# Altium footprint library Hello.PcbLib: 234 footprints (part 1 of 15)
Each footprint in its own frame and in the unit in brackets; x right, y up, seen from the top. Pads: shape width x height; smd on the part's side, far side on the other; paste and mask are expansions set on the pad; w line width, h text height; cw(c..) or ccw(c..) is an arc to the next point about the centre after c.
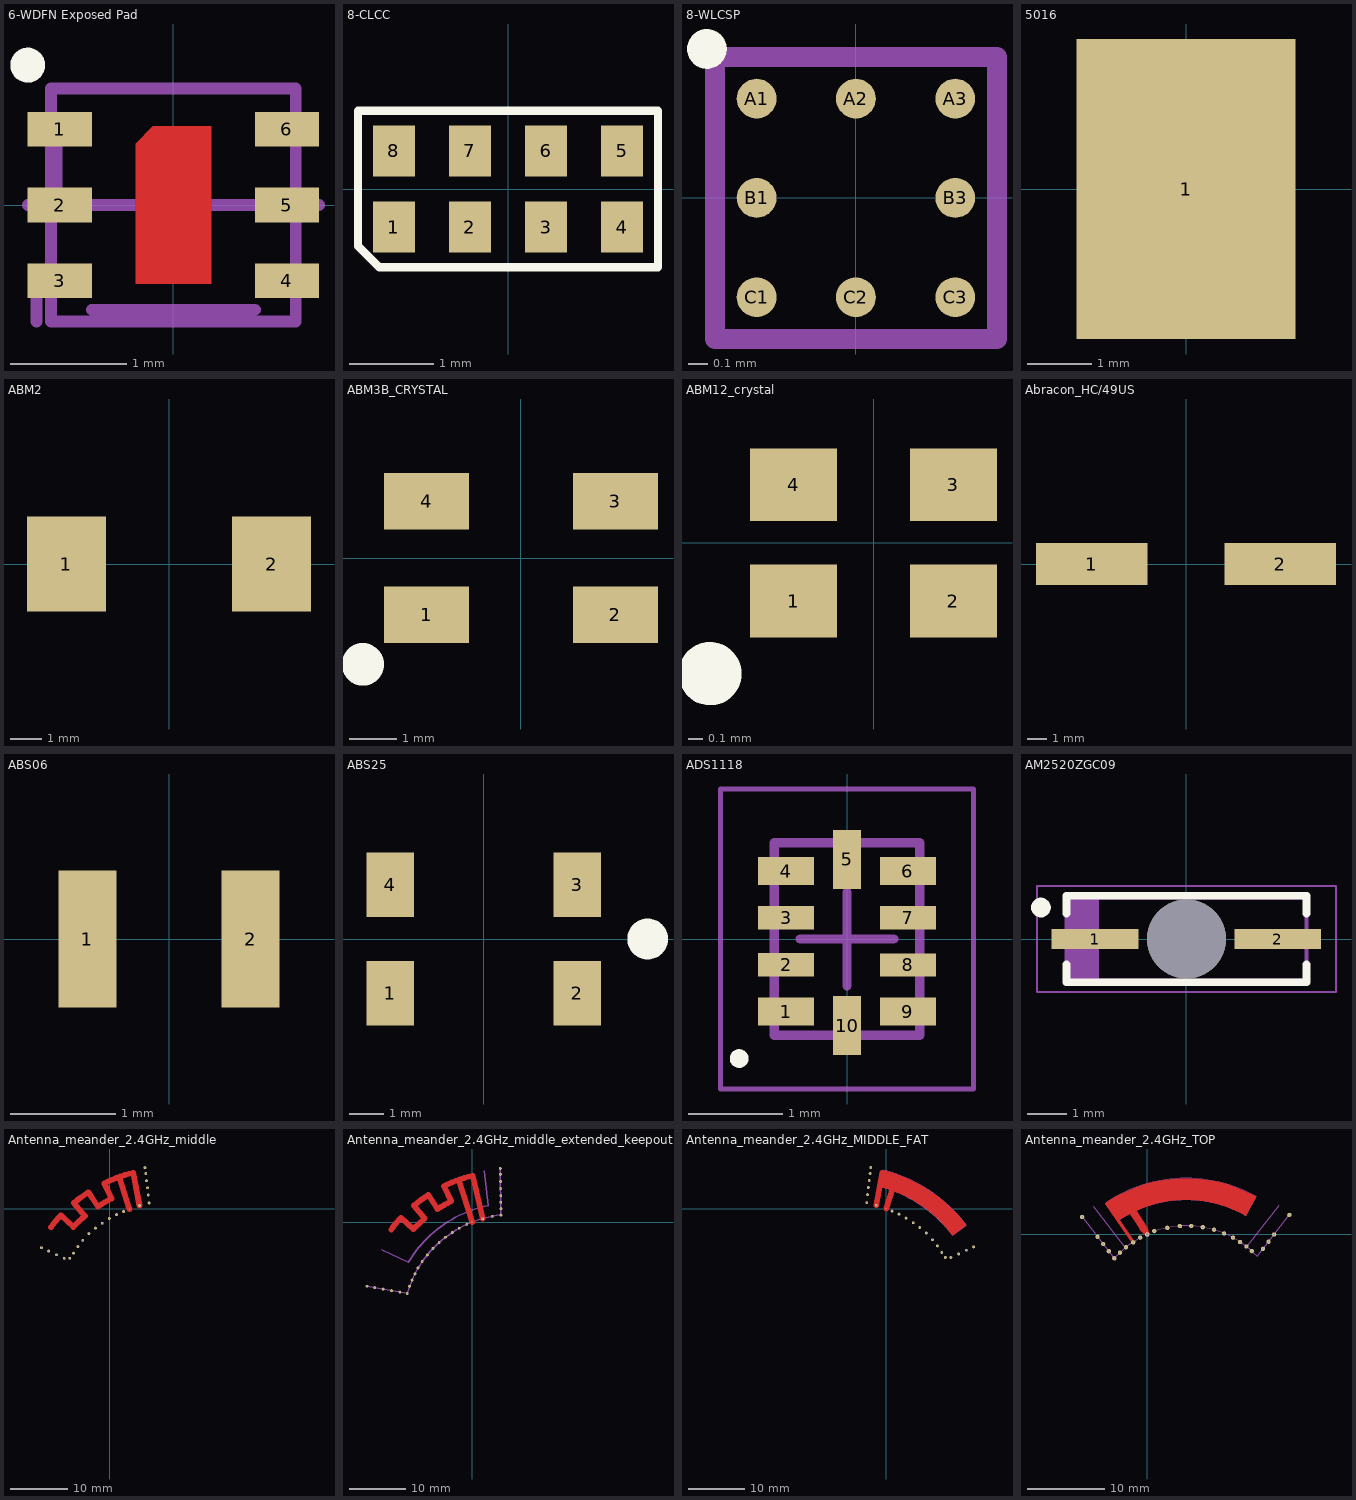
[diagram p0: the footprints below, top view; thin cyan lines are the x and y axes]

## 6-WDFN Exposed Pad [mm] "6-Pin DFN 2.10 x 2.0 mm"
height 0.75
pads (6):
  rect 0.55x0.3 smd: 1(-0.975,0.65) 2(-0.975,0) 3(-0.975,-0.65) 4(0.975,-0.65) 5(0.975,0) 6(0.975,0.65)
Top Layer:
  region: -0.325,-0.675 -0.325,0.525 -0.175,0.675 0.325,0.675 0.325,-0.675
Top Overlay:
  circle w0.15: c-1.25,1.2 r0.075
Mechanical 13:
  lines w0.1: -1.25,0 1.25,0 ; -0.7,-0.9 0.7,-0.9 ; -1.05,-1 -1.05,1 1.05,1 1.05,-1 -1.05,-1
Mechanical 15:
  lines w0.1: -1.175,-1 -1.175,-0.675 ; -1.05,-0.65 -1.05,0 ; -1,0 -1,0.65
3D body: height 0.6, standoff 0.05, extent -1.1,-1.05 1.1,1.05

## 8-CLCC [mm] "8 lead CLCC package, 2.3 x 1.5mm"
height 0.8
pads (8):
  rect 0.5x0.6 smd: 1(-1.35,-0.45) 2(-0.45,-0.45) 3(0.45,-0.45) 4(1.35,-0.45) 5(1.35,0.45) 6(0.45,0.45) 7(-0.45,0.45) 8(-1.35,0.45)
Top Overlay:
  lines w0.1: -1.775,-0.675 -1.525,-0.925 1.775,-0.925 1.775,0.925 -1.775,0.925 -1.775,-0.6 -1.775,-0.675
3D body: height 0.8, standoff 0.1, extent -1.5,-0.55 1.7,0.95

## 8-WLCSP [mm] "8-ball WLCSP 1.42x1.42x0.65mm"
height 0.65
pads (8):
  round 0.2 smd: A1(-0.5,0.5) A2(0,0.5) A3(0.5,0.5) B1(-0.5,0) B3(0.5,0) C1(-0.5,-0.5) C2(0,-0.5) C3(0.5,-0.5)
Top Overlay:
  circle w0.1: c-0.75,0.75 r0.05
Mechanical 13:
  lines w0.1: -0.71,-0.71 0.71,-0.71 0.71,0.71 -0.71,0.71 -0.71,-0.71
3D body: height 0.65, standoff 0.21, extent -0.71,-0.71 0.71,0.71

## 5016 [mm] "Single-pad test point"
height 0.99
pads (1):
  rect 3.43x4.7 smd: 1(0,0)

## ABM2 [mm] "Abracon ABM2 2-lead XO 4.5x8x1.4mm"
height 1.4
pads (2):
  rect 2.5x3 smd: 1(-3.25,0) 2(3.25,0)
3D body: height 1.4, standoff 0.02, extent -4,-2.25 4,2.25

## ABM3B_CRYSTAL [mm] "Abracon ABM3B series crystals"
height 1.1
pads (4):
  rect 1.8x1.2 smd: 1(-2,-1.2) 2(2,-1.2) 3(2,1.2) 4(-2,1.2)
Top Overlay:
  circle w0.7: c-3.35,-2.25 r0.1
3D body: height 1.1, standoff 0, extent -2.5,-1.6 2.5,1.6

## ABM12_crystal [mm] "Abracon ABM12 series crystal"
height 0.45
pads (4):
  rect 0.6x0.5 smd: 1(-0.55,-0.4) 2(0.55,-0.4) 3(0.55,0.4) 4(-0.55,0.4)
Top Overlay:
  circle w0.254: c-1.125,-0.9 r0.09
3D body: height 0.45, standoff 0, extent -0.875,-0.675 0.875,0.675

## Abracon_HC/49US [mm] "Abracon HC/49US crystal"
height 4.2
pads (2):
  rect 5.6x2.1 smd: 1(-4.75,0) 2(4.75,0)
3D body: height 4.2, standoff 0.1, extent -7.25,-2.5 7.25,2.5

## ABS06 [mm] "Abracon ABS06 32.768KHz XO 1.2x2.0x0.6mm"
pads (2):
  rect 0.55x1.3 smd: 1(-0.775,0) 2(0.775,0)
3D body: height 0.6, standoff 0, extent -1,-0.6 1,0.6

## ABS25 [mm] "Abracon ABS25 Crystal"
height 2.5
pads (4):
  rect 1.4x1.9 smd: 1(-2.75,-1.6) 2(2.75,-1.6) 3(2.75,1.6) 4(-2.75,1.6)
Top Overlay:
  circle w0.6: c4.825,0 r0.3
3D body: height 2.6, standoff -0.11, extent -4,-2 4,2

## ADS1118 [mm] "ADC in a 10-QFN package"
height 0.4
pads (10):
  rect 0.6x0.3 smd mask+0.08: 1(-0.65,-0.775) 4(-0.65,0.725) 6(0.65,0.725) 9(0.65,-0.775)
  rect 0.6x0.25 smd mask+0.08: 2(-0.65,-0.275) 3(-0.65,0.225) 7(0.65,0.225) 8(0.65,-0.277)
  rect 0.3x0.63 smd mask+0.08: 5(0,0.85) 10(0,-0.925)
Top Overlay:
  circle w0.1: c-1.15,-1.275 r0.05
Mechanical 13:
  lines w0.1: -0.775,-1.025 0.775,-1.025 0.775,1.025 -0.775,1.025 -0.775,-1.025
Mechanical 15:
  lines w0.05: -1.35,-1.6 1.35,-1.6 1.35,1.6 -1.35,1.6 -1.35,-1.6
  lines w0.1: -0.5,0 0.5,0 ; 0,-0.5 0,0.5
3D body: height 0.4, standoff 0, extent -0.775,-1.025 0.775,1.025

## AM2520ZGC09 [mm] "Green Led"
height 2.9
pads (2):
  rect 2.2x0.5 smd: 1(-2.325,0) 2(2.325,0)
via 0,0 diameter 2 hole 2
Top Overlay:
  circle w0.25: c-3.7,0.8 r0.125
  lines w0.2: -3.05,-0.65 -3.05,-1.1 3.05,-1.1 3.05,-0.65 ; -3.05,0.65 -3.05,1.1 3.05,1.1 3.05,0.65
Mechanical 13:
  rectangle: -3.05,-1.05 -2.23,1.05
  lines w0.1: -3.05,-1.05 3.05,-1.05 3.05,1.05 -3.05,1.05 -3.05,-1.05
Mechanical 15:
  lines w0.05: -3.8,-1.35 3.8,-1.35 3.8,1.35 -3.8,1.35 -3.8,-1.35
  lines w0.1: -0.5,0 0.5,0 ; 0,-0.5 0,0.5
3D body: height 1.4, standoff 0, extent -3.05,-1.05 3.05,1.05

## Antenna_meander_2.4GHz_middle [mm]
pads (22):
  round 0.2 smd paste+0 mask+0.102: 1(3.45,0)
  round 0.5 hole 0.2: 2(-12.04,-6.807) 2(-10.774,-7.394) 2(-9.389,-8.043) 2(-8.029,-8.677) 2(-7.059,-8.669) 2(-6.399,-7.769) 2(-5.629,-6.618) 2(-4.76,-5.512) 2(-3.685,-4.331) 2(-2.515,-3.36) 2(-1.342,-2.5) 2(-0.078,-1.682) 2(1.175,-0.983) 2(2.405,-0.44) 2(5.221,0.607) 2(6.176,7.281) 2(6.301,6.231) 2(6.451,4.981) 2(6.601,3.731) 2(6.751,2.481) 2(6.896,1.057)
Top Layer:
  lines w1: -10.363,-3.196 cw(c10.401,-18.844) -8.614,-1.112 -6.42,-3.158 cw(c10.401,-18.844) -4.383,-1.225 -6.311,1.074 cw(c10.401,-18.844) -3.76,2.962 -2.126,0.446 cw(c10.401,-18.844) 0.319,1.829 -0.997,4.525 cw(c10.401,-18.844) 4.108,6.383 ; 1.679,5.636 3.45,0 ; 4.111,6.384 5.221,0.607
Multi-Layer:
  pour cut-out: -13.441,-5.85 -7.369,-8.681 -5.864,-6.515 -4.911,-5.304 -3.782,-4.065 -2.556,-3.092 -1.372,-2.21 -0.086,-1.363 1.124,-0.725 3.436,0.293 5.121,0.831 6.631,1.23 5.852,7.912 0.8,6.708 -3.713,4.6 -6.339,2.755 -8.828,0.495 -10.217,-1.064 -11.515,-2.666 -12.59,-4.261
3D body: height 0.1, standoff 0, extent -13.441,-8.681 6.631,7.912

## Antenna_meander_2.4GHz_middle_extended_keepout [mm]
pads (29):
  round 0.2 smd paste+0 mask+0.102: 1(0,0)
  round 0.5 hole 0.2: 2(-18.712,-11.396) 2(-17.338,-11.635) 2(-15.832,-11.904) 2(-14.355,-12.165) 2(-12.873,-12.431) 2(-11.55,-12.675) 2(-11.15,-11.425) 2(-10.689,-10.308) 2(-10.175,-9.2) 2(-9.638,-8.139) 2(-8.875,-7) 2(-7.975,-5.825) 2(-6.975,-4.675) 2(-5.875,-3.625) 2(-4.768,-2.696) 2(-3.533,-1.835) 2(-2.306,-1.093) 2(-0.975,-0.4) 2(1.85,0.6) 2(3.55,1.025) 2(5.005,9.532) 2(5.02,8.475) 2(5.038,7.216) 2(5.057,5.957) 2(5.075,3.525) 2(5.075,4.698) 2(5.1,2.4) 2(5.109,1.249)
Top Layer:
  lines w1: -14.415,-1.328 cw(c6.35,-16.975) -12.665,0.757 ; -12.664,0.763 -10.47,-1.283 ; -10.471,-1.289 cw(c6.35,-16.975) -8.434,0.644 ; -10.362,2.942 cw(c6.35,-16.975) -7.811,4.83 ; -10.361,2.949 -8.433,0.65 ; -7.81,4.837 -6.176,2.321 ; -6.177,2.314 cw(c6.35,-16.975) -3.733,3.697 ; -5.048,6.394 cw(c6.35,-16.975) 0.057,8.252 ; -5.047,6.4 -3.731,3.704 ; -2.371,7.511 -0.012,0.004 ; 0.058,8.258 1.843,0.598
Mechanical 15:
  lines w0.254: -18.712,-11.396 -11.56,-12.666 ; -16.09,-4.932 -11.35,-7.175 ; -11.549,-12.64 cw(c7.15,-18.1) 5.119,1.274 ; -11.334,-7.153 cw(c7.15,-18.1) 2.861,2.95 ; 2.13,9.15 2.854,2.918 ; 5.005,9.532 5.106,1.249
Multi-Layer:
  pour cut-out: 5.109,1.249 3.55,1.025 1.843,0.598 0,0 -0.975,-0.4 -2.306,-1.093 -3.533,-1.835 -4.768,-2.696 -5.875,-3.625 -6.975,-4.675 -7.975,-5.825 -8.875,-7 -9.638,-8.139 -10.175,-9.2 -10.689,-10.308 -11.15,-11.425 -11.55,-12.675 -12.873,-12.431 -14.355,-12.165 -15.832,-11.904 -17.338,-11.635 -18.712,-11.396 -19.45,-11.275 -17.491,-3.975 -15.565,-0.791 -12.878,2.37 -10.389,4.63 -7.763,6.475 -3.25,8.583 1.802,9.787 5,10.325 5.005,9.532 5.02,8.475 5.038,7.216 5.057,5.957 5.075,4.698 5.075,3.525 5.1,2.4
3D body: height 0.1, standoff 0, extent -19.45,-12.675 5.106,10.325

## Antenna_meander_2.4GHz_MIDDLE_FAT [mm] "Antenna in a meander shape"
pads (22):
  round 0.2 smd paste+0 mask+0.102: 1(0,0)
  round 0.5 hole 0.2: 2(-3.446,1.057) 2(-3.301,2.481) 2(-3.151,3.731) 2(-3.001,4.981) 2(-2.851,6.231) 2(-2.726,7.281) 2(-1.771,0.607) 2(1.045,-0.44) 2(2.275,-0.983) 2(3.528,-1.682) 2(4.792,-2.5) 2(5.965,-3.36) 2(7.135,-4.331) 2(8.21,-5.512) 2(9.079,-6.618) 2(9.849,-7.769) 2(10.509,-8.669) 2(11.479,-8.677) 2(12.839,-8.043) 2(14.224,-7.394) 2(15.49,-6.807)
Top Layer:
  region: 14.17,-2.927 11.78,-4.729 11.664,-4.567 10.69,-3.38 9.641,-2.259 8.52,-1.21 7.333,-0.236 6.085,0.658 4.781,1.469 3.427,2.193 2.029,2.827 0.592,3.367 -0.877,3.813 -1.276,3.906 -1.277,3.903 -0.549,6.824 0.923,6.414 2.434,5.892 3.91,5.281 5.348,4.581 6.74,3.796 8.082,2.928 9.37,1.981 10.598,0.957 11.762,-0.138 12.857,-1.302 13.881,-2.53 14.172,-2.926
  lines w1: -1.771,0.607 -0.667,6.353 ; 0,0 1.771,5.636
Mechanical 15:
  lines w0.05: -1.277,3.903 cw(c-6.95,-18.85) 11.775,-4.733 14.17,-2.927 ccw(c-6.95,-18.85) -0.551,6.814 -1.277,3.903
Multi-Layer:
  pour cut-out: 16.891,-5.85 10.819,-8.681 9.314,-6.515 8.361,-5.304 7.232,-4.065 6.006,-3.092 4.822,-2.21 3.536,-1.363 2.326,-0.725 0.014,0.293 -1.671,0.831 -3.181,1.23 -2.402,7.912 2.65,6.708 7.163,4.6 9.789,2.755 12.278,0.495 13.667,-1.064 14.965,-2.666 16.04,-4.261
3D body: height 0.1, standoff 0, extent -3.181,-8.681 16.891,7.912

## Antenna_meander_2.4GHz_TOP [mm] "Antenna in a meander shape"
pads (25):
  round 0.559 hole 0.305 paste-1: 1(0,0)
  round 0.559 hole 0.2 paste-1: 2(-8.429,2.249) 2(-6.43,-0.318) 2(-5.705,-1.248) 2(-4.98,-2.179) 2(-4.261,-3.101) 2(-3.532,-2.367) 2(-2.757,-1.667) 2(-1.82,-1.038) 2(-0.906,-0.423) 2(0.906,0.423) 2(2.6,0.85) 2(4.225,1.075) 2(5.7,1.075) 2(7.2,0.925) 2(8.65,0.6) 2(9.95,0.125) 2(11.106,-0.423) 2(12.025,-1) 2(12.843,-1.567) 2(13.543,-2.167) 2(14.981,-1.878) 2(15.706,-0.948) 2(16.431,-0.017) 2(18.406,2.518)
Top Layer:
  region: -3.759,1.779 -5.326,4.101 -4.988,4.336 -3.852,5.01 -2.67,5.602 -1.449,6.107 -0.195,6.525 1.085,6.852 2.386,7.086 3.699,7.227 5.02,7.275 6.341,7.227 7.655,7.086 8.955,6.852 10.235,6.525 11.489,6.107 12.71,5.602 13.892,5.01 14.116,4.877 14.113,4.874 12.735,2.437 12.153,2.762 11.033,3.279 9.875,3.706 8.688,4.041 7.478,4.281 6.253,4.426 5.02,4.475 3.787,4.426 2.562,4.281 1.352,4.041 0.165,3.706 -0.993,3.279 -2.113,2.762 -3.189,2.16
  region: 0,0.925 0.275,0.075 0.1,-0.15 -0.2,-0.175 -0.8,0.4 -0.494,0.8
  lines w0.45: -5.238,3.95 -1.813,-1.025
  lines w1: -3.068,4.845 -0.47,0.762
Bottom Layer:
  circle w0.1: c0,0 r0.168
  circle w0.1: c0,0 r0.25
Mechanical 15:
  lines w0.05: -8.429,2.249 -4.255,-3.109 cw(c5.1,-11.4) -0.907,-0.438 ; -6.999,3.625 -2.825,-1.733 ; 0.924,0.382 cw(c5.1,-11.4) 14.222,-2.853 18.406,2.518 ; 12.735,2.437 ccw(c5.02,-11.237) -3.759,1.779 -5.325,4.1 cw(c5.02,-11.237) 14.113,4.874 12.735,2.437 ; 12.891,-1.625 17.075,3.747
Multi-Layer:
  pour cut-out: 19.225,3.575 14.5,-2.496 13.45,-1.675 12.175,-0.775 11.25,-0.2 10.05,0.375 8.709,0.85 7.25,1.2 5.7,1.375 4.225,1.35 2.55,1.125 0.8,0.65 0.95,0.15 1,-0.125 1,-0.4 0.9,-0.6 0.775,-0.75 0.65,-0.875 0.492,-0.975 0.3,-1.025 0.075,-1.05 -0.15,-1.05 -0.35,-0.95 -0.906,-0.423 -1.075,-0.25 -2.925,-1.45 -3.725,-2.15 -4.425,-2.875 -9.25,3.325 -5.95,5.988 -3.75,7.263 -1.05,8.213 1.15,8.725 3.075,9 4.9,9.113 6.925,9.013 8.6,8.8 10.65,8.338 13.125,7.525 15.6,6.225
3D body: height 0.1, standoff 0, extent -9.25,-3.3 19.225,9.113